# Altium footprint library adafruit.PCBLIB: 643 footprints (part 30 of 41)
Each footprint in its own frame and in the unit in brackets; x right, y up, seen from the top. Pads: shape width x height; smd on the part's side, far side on the other; paste and mask are expansions set on the pad; w line width, h text height; cw(c..) or ccw(c..) is an arc to the next point about the centre after c.
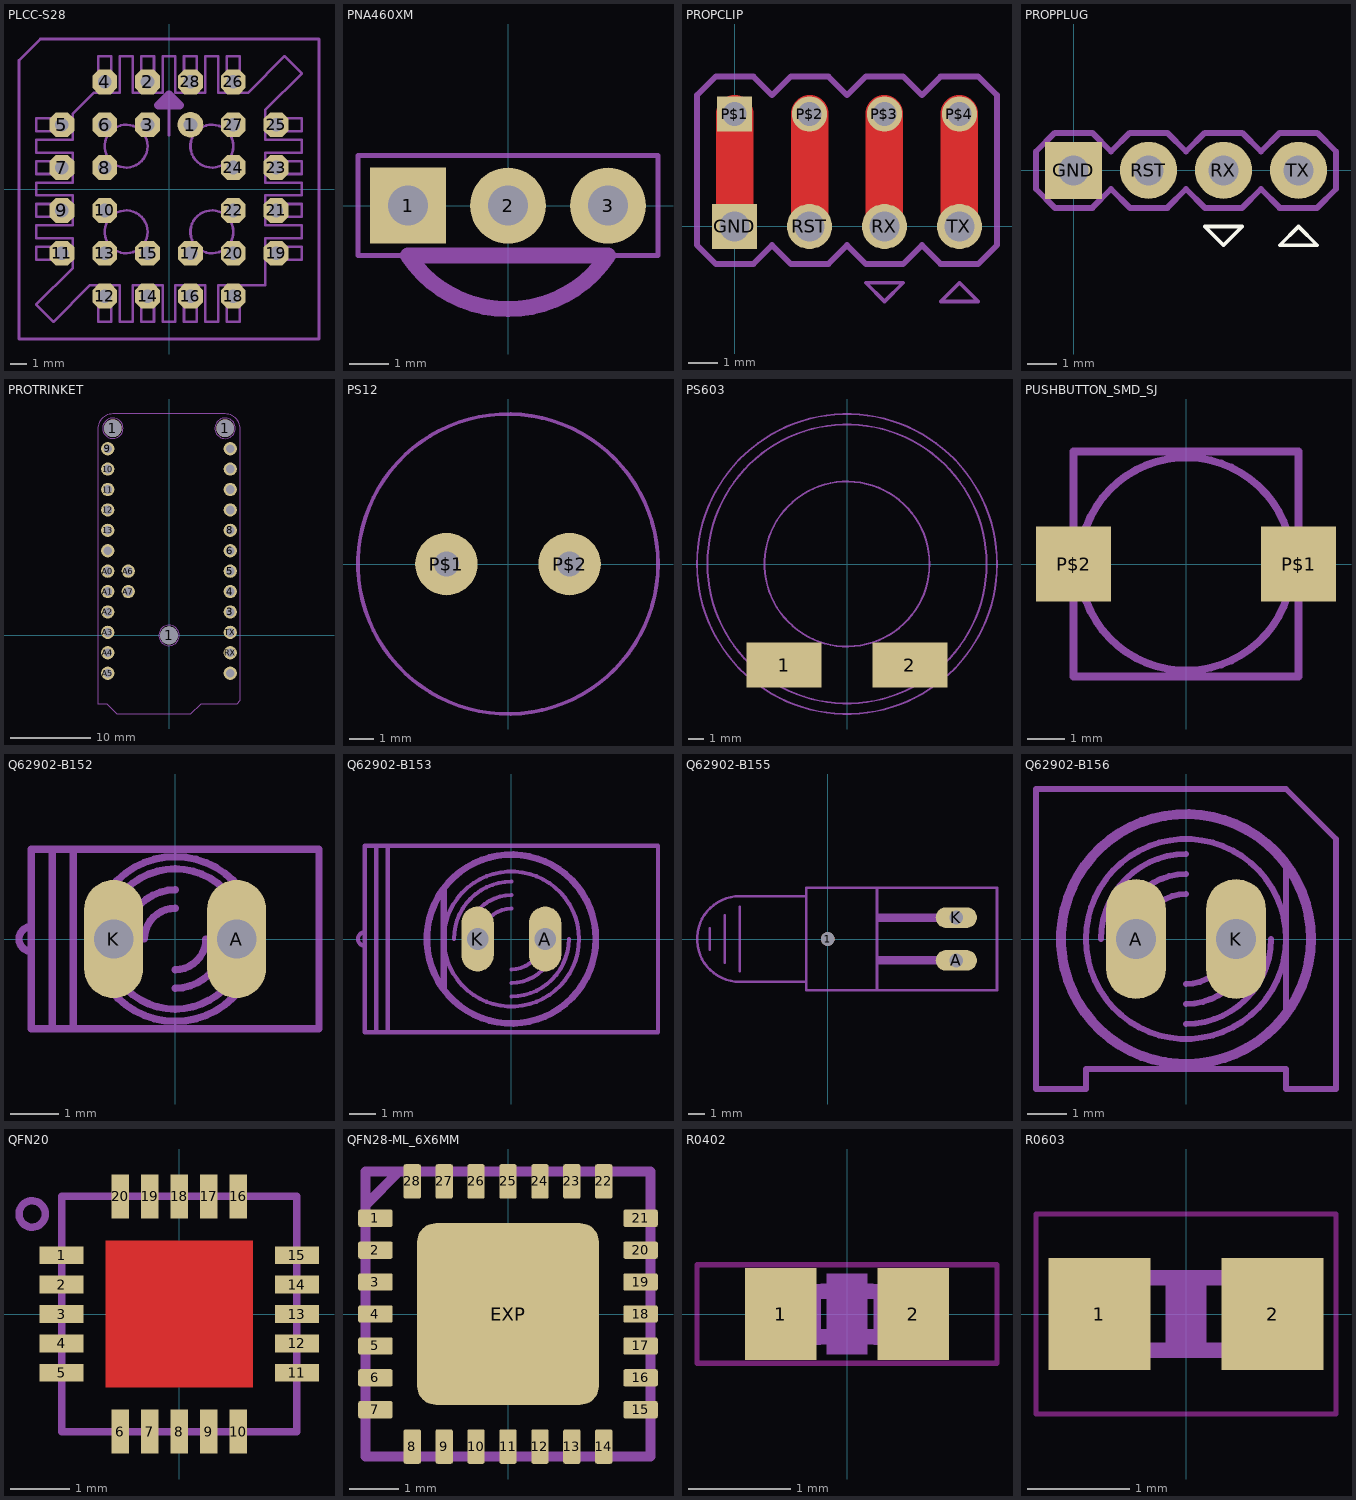
[diagram p29: the footprints below, top view; thin cyan lines are the x and y axes]

## PLCC-S28 [mil]
pads (28):
  round 60 hole 32: 1(50,150)
  oct 58.09x58.09 hole 32: 2(-50,250) 3(-50,150) 4(-150,250) 5(-250,150) 6(-150,150) 7(-250,50) 8(-150,50) 9(-250,-50) 10(-150,-50) 11(-250,-150) 12(-150,-250) 13(-150,-150) 14(-50,-250) 15(-50,-150) 16(50,-250) 17(50,-150) 18(150,-250) 19(250,-150) 20(150,-150) 21(250,-50) 22(150,-50) 23(250,50) 24(150,50) 25(250,150) 26(150,250) 27(150,150) 28(50,250)
Mechanical 2:
  lines w6: -225,-185 -310,-270 -270,-310 -185,-225 ; -225,-115 -310,-115 -310,-85 -225,-85 ; -225,-15 -310,-15 -310,15 -225,15 ; -225,85 -310,85 -310,115 -225,115 ; -225,175 -175,225 ; -115,-225 -115,-310 -85,-310 -85,-225 ; -115,225 -115,310 -85,310 -85,225 ; -15,-225 -15,-310 15,-310 15,-225 ; -15,225 -15,310 15,310 15,225 ; 0,125 0,220 ; 85,-225 85,-310 115,-310 115,-225 ; 85,225 85,310 115,310 115,225 ; 165,-225 225,-225 225,-165 ; 185,225 270,310 310,270 225,185 ; 225,-115 310,-115 310,-85 225,-85 ; 225,-15 310,-15 310,15 225,15 ; 225,85 310,85 310,115 225,115 ; -350,-350 -350,300 -300,350 350,350 350,-350 -350,-350
  lines w20: -25,195 25,195 0,220 -25,195
Mechanical 18:
  circle w6: c-100,100 r50
  circle w6: c100,100 r50
  circle w6: c-100,-100 r50
  circle w6: c100,-100 r50
  lines w6: -225,-185 -225,-165 -310,-165 -310,-135 -225,-135 -225,-115 ; -225,-85 -225,-65 -310,-65 -310,-35 -225,-35 -225,-15 ; -225,15 -225,35 -310,35 -310,65 -225,65 -225,85 ; -225,115 -225,135 -310,135 -310,165 -225,165 -225,175 ; -185,-225 -165,-225 -165,-310 -135,-310 -135,-225 -115,-225 ; -175,225 -165,225 -165,310 -135,310 -135,225 -115,225 ; -85,-225 -65,-225 -65,-310 -35,-310 -35,-225 -15,-225 ; -85,225 -65,225 -65,310 -35,310 -35,225 -15,225 ; 15,-225 35,-225 35,-310 65,-310 65,-225 85,-225 ; 15,225 35,225 35,310 65,310 65,225 85,225 ; 115,-225 135,-225 135,-310 165,-310 165,-225 ; 115,225 135,225 135,310 165,310 165,225 185,225 ; 225,-165 310,-165 310,-135 225,-135 225,-115 ; 225,-85 225,-65 310,-65 310,-35 225,-35 225,-15 ; 225,15 225,35 310,35 310,65 225,65 225,85 ; 225,115 225,135 310,135 310,165 225,165 225,185

## PNA460XM [mil]
pads (3):
  rect 76x76 hole 40: 1(-100,0)
  round 76 hole 40: 2(0,0) 3(100,0)
Mechanical 2:
  lines w5: -100,-50 -150,-50 -150,50 150,50 150,-50 100,-50
  lines w16: -100,-50 100,-50 cw(c0,16.66) -100,-50
Mechanical 18:
  rectangle: 90,-10 110,10
  rectangle: -10,-10 10,10
  rectangle: -110,-10 -90,10

## PROPCLIP [mil]
pads (8):
  rect 60x60 hole 40: GND(0,0)
  rect 47.25x47.25 hole 31.5: P$1(0,150)
  round 47.25 hole 31.5: P$2(100,150) P$3(200,150) P$4(300,150)
  round 60 hole 40: RST(100,0) RX(200,0) TX(300,0)
Top Layer:
  lines w50: 0,0 0,150 ; 100,0 100,150 ; 200,0 200,150 ; 300,0 300,150
Mechanical 2:
  lines w5: 175,-75 200,-100 225,-75 175,-75 ; 275,-100 325,-100 300,-75 275,-100
  lines w8: -50,-25 -50,175 -25,200 25,200 50,175 75,200 125,200 150,175 175,200 225,200 250,175 275,200 325,200 350,175 350,-25 325,-50 275,-50 250,-25 225,-50 175,-50 150,-25 125,-50 75,-50 50,-25 25,-50 -25,-50 -50,-25
Mechanical 18:
  rectangle: 290,-10 310,10
  rectangle: 190,-10 210,10
  rectangle: 90,-10 110,10
  rectangle: -10,-10 10,10

## PROPPLUG [mil]
pads (4):
  rect 76x76 hole 40: GND(0,0)
  round 76 hole 40: RST(100,0) RX(200,0) TX(300,0)
Top Overlay:
  lines w5: 175,-75 200,-100 225,-75 175,-75 ; 275,-100 325,-100 300,-75 275,-100
Mechanical 2:
  lines w8: -50,-25 -50,25 -25,50 25,50 50,25 75,50 125,50 150,25 175,50 225,50 250,25 275,50 325,50 350,25 350,-25 325,-50 275,-50 250,-25 225,-50 175,-50 150,-25 125,-50 75,-50 50,-25 25,-50 -25,-50 -50,-25
Mechanical 18:
  rectangle: 290,-10 310,10
  rectangle: 190,-10 210,10
  rectangle: 90,-10 110,10
  rectangle: -10,-10 10,10

## PROTRINKET [mil]
pads (29):
  round 86.61 hole 86.61: 1(-275,1015) 1(0,0) 1(275,1015)
  round 64.97 hole 43.31: 3(300,115) 4(300,215) 5(300,315) 6(300,415) 8(300,515) 9(-300,915) 10(-300,815) 11(-300,715) 12(-300,615) 13(-300,515) A0(-300,315) A1(-300,215) A2(-300,115) A3(-300,15) A4(-300,-85) A5(-300,-185) A6(-200,315) A7(-200,215) AREF(-300,415) BAT+(300,915) GND(300,815) RST(300,-185) RX(300,-85) TX(300,15) USB(300,715) VCC(300,615)
Mechanical 2:
  lines w0: -350,-335 -350,1010 cw(c-275,1010) -275,1085 275,1085 cw(c275,1010) 350,1010 350,-317.5 335,-335 157.5,-335 107.5,-385 -255,-385 -305,-335 -350,-335
Mechanical 18:
  circle w5: c275,1015 r50.25
  circle w5: c-275,1015 r50
  circle w5: c0,0 r50

## PS12 [mm]
pads (2):
  round 2.54 hole 1: P$1(-2.5,0) P$2(2.5,0)
Mechanical 2:
  circle w0.152: c0,0 r6.096

## PS603 [mm]
pads (2):
  rect 5x3 smd: 1(-4.184,-6.738) 2(4.184,-6.738)
Mechanical 2:
  circle w0.127: c0,0 r10
  circle w0.127: c0,0 r9.302
  circle w0.127: c0,0 r5.5

## PUSHBUTTON_SMD_SJ [mm]
pads (2):
  rect 2x2 smd: P$1(3,0) P$2(-3,0)
Mechanical 2:
  lines w0.203: -3,-1.7 -3,-3 3,-3 3,-1.7 ; -3,1.7 -3,3 3,3 3,1.7
Mechanical 18:
  circle w0.203: c0,0 r2.84
  lines w0.127: -3,-3 3,-3 ; -3,3 3,3
  lines w0.203: -3,-3 -3,3 ; 3,-3 3,3

## Q62902-B152 [mil]
pads (2):
  oval 48x96 hole 32: A(50,0) K(-50,0)
Mechanical 2:
  lines w6: -117,-10 cw(c-117,0) -117,10 ; -57.55,34.31 cw(c0,0) 0,67 cw(c0,0) 57.77,33.93 ; -57.37,-34.62 ccw(c-0.01,0) 0,-67 ccw(c0.01,0) 57.37,-34.62 ; -45.22,34.7 cw(c0,0) 0,57 cw(c0,0) 45.18,34.75 ; -44.69,-35.38 ccw(c0,0) 0,-57 ccw(c0,0) 44.51,-35.61 ; -25,0 cw(c0,0) 0,25 ; -100,-73 -83,-73 ; -100,-73 -100,73 ; -100,-73 -117,-73 -117,73 -100,73 ; -100,73 -83,73 ; -83,-73 117,-73 117,-19 117,19 117,73 -83,73 ; -83,-73 -83,-19 -83,19 -83,73
Mechanical 18:
  lines w6: -57.09,-35.06 cw(c0,0.01) -67,0 cw(c-0.01,0) -56.88,35.41 ; -45.1,34.85 ccw(c-0.01,0) -57,0 ccw(c0,0) -44.51,-35.61 ; -40,0 cw(c0,0) 0,40 ; 0,-40 ccw(c0,0) 40,0 ; 0,-25 ccw(c0,0) 25,0 ; 44.41,-35.72 ccw(c0,0.01) 57,0 ccw(c0,0) 44.89,35.13 ; 56.93,-35.33 ccw(c0.01,-0.01) 67,0 ccw(c-0.01,0) 57.17,34.94

## Q62902-B153 [mil]
pads (2):
  oval 48x96 hole 32: A(50,0) K(-50,0)
Mechanical 2:
  circle w6: c0,0 r100
  circle w10: c0,0 r125
  lines w6: -217,-10 cw(c-217,0) -217,10 ; -200,-138 -183,-138 ; -200,-138 -200,138 ; -200,-138 -217,-138 -217,138 -200,138 ; -200,138 -183,138 ; -183,-138 217,-138 217,138 -183,138 ; -183,-138 -183,138
  lines w10: -100,-75 -100,75
Mechanical 18:
  lines w6: -85,0 cw(c0,0) 0,85 ; -65,0 cw(c0,0) 0,65 ; -45,0 cw(c0,0) 0,45 ; 0,-85 ccw(c0,0) 85,0 ; 0,-65 ccw(c0,0) 65,0 ; 0,-45 ccw(c0,0) 45,0

## Q62902-B155 [mil]
pads (3):
  round 32 hole 32: 1(0,0)
  oval 96x48 hole 32: A(300,-50) K(300,50)
Mechanical 2:
  rectangle: 115,40 265,60
  rectangle: 115,-60 265,-40
  lines w6: -275,-25 -275,25 ; -240,-55 -240,55 ; -205,-75 -205,75 ; -50,-100 -50,-120 115,-120 ; -50,-100 -205,-100 cw(c-205,0) -205,100 -50,100 ; -50,-100 -50,100 ; -50,100 -50,120 115,120 ; 115,-120 115,120 ; 115,-120 395,-120 395,120 115,120

## Q62902-B156 [mil]
pads (2):
  oval 60x120 hole 40: A(-50,0) K(50,0)
Mechanical 2:
  circle w6: c0,0 r100
  circle w10: c0,0 r125
  lines w6: 100,-75 100,75 ; -150,-150 -150,150 100,150 150,100 150,-150 100,-150 100,-130 -100,-130 -100,-150 -150,-150
Mechanical 18:
  lines w6: -85,0 cw(c0,0) 0,85 ; -65,0 cw(c0,0) 0,65 ; -45,0 cw(c0,0) 0,45 ; 0,-85 ccw(c0,0) 85,0 ; 0,-65 ccw(c0,0) 65,0 ; 0,-45 ccw(c0,0) 45,0

## QFN20 [mm]
pads (20):
  rect 0.75x0.3 smd: 1(-2,1) 2(-2,0.5) 3(-2,0) 4(-2,-0.5) 5(-2,-1) 11(2,-1) 12(2,-0.5) 13(2,0) 14(2,0.5) 15(2,1)
  rect 0.3x0.75 smd: 6(-1,-2) 7(-0.5,-2) 8(0,-2) 9(0.5,-2) 10(1,-2) 16(1,2) 17(0.5,2) 18(0,2) 19(-0.5,2) 20(-1,2)
Top Layer:
  rectangle: -1.25,-1.25 1.25,1.25
Top Paste:
  rectangle: -1.2,0.4 -0.4,1.2
  rectangle: 0.4,0.4 1.2,1.2
  rectangle: 0.4,-1.2 1.2,-0.4
  rectangle: -1.2,-1.2 -0.4,-0.4
Top Solder:
  rectangle: -1.3,-1.3 1.3,1.3
Mechanical 2:
  circle w0.127: c-2.5,1.7 r0.224
  lines w0.127: -2,-2 2,-2 2,2 -2,2 -2,-2

## QFN28-ML_6X6MM [mm]
pads (29):
  rrect20% 0.7x0.35 smd paste-0.35 mask-0.35: 1(-2.7,1.95) 2(-2.7,1.3) 3(-2.7,0.65) 4(-2.7,0) 5(-2.7,-0.65) 6(-2.7,-1.3) 7(-2.7,-1.95) 15(2.7,-1.95) 16(2.7,-1.3) 17(2.7,-0.65) 18(2.7,0) 19(2.7,0.65) 20(2.7,1.3) 21(2.7,1.95)
  rrect20% 0.35x0.7 smd paste-0.35 mask-0.35: 8(-1.95,-2.7) 9(-1.3,-2.7) 10(-0.65,-2.7) 11(0,-2.7) 12(0.65,-2.7) 13(1.3,-2.7) 14(1.95,-2.7) 22(1.95,2.7) 23(1.3,2.7) 24(0.65,2.7) 25(0,2.7) 26(-0.65,2.7) 27(-1.3,2.7) 28(-1.95,2.7)
  rrect20% 3.7x3.7 smd paste-1.85 mask-1.85: EXP(0,0)
Top Paste:
  rectangle: -3.042,1.787 -2.359,2.113
  rectangle: -3.042,1.137 -2.359,1.463
  rectangle: -3.042,0.487 -2.359,0.813
  rectangle: -3.042,-0.163 -2.359,0.163
  rectangle: -3.042,-0.813 -2.359,-0.487
  rectangle: -3.042,-1.463 -2.359,-1.137
  rectangle: -3.042,-2.113 -2.359,-1.787
  region: -1.788,-3.042 -1.788,-2.36 -2.112,-2.36 -2.112,-3.042
  region: -1.138,-3.042 -1.138,-2.36 -1.462,-2.36 -1.462,-3.042
  region: -0.488,-3.042 -0.488,-2.36 -0.812,-2.36 -0.812,-3.042
  region: 0.162,-3.042 0.162,-2.36 -0.162,-2.36 -0.162,-3.042
  region: 0.812,-3.042 0.812,-2.36 0.488,-2.36 0.488,-3.042
  region: 1.462,-3.042 1.462,-2.36 1.138,-2.36 1.138,-3.042
  region: 2.112,-3.042 2.112,-2.36 1.788,-2.36 1.788,-3.042
  region: 3.042,-1.787 2.359,-1.787 2.359,-2.113 3.042,-2.113
  region: 3.042,-1.137 2.359,-1.137 2.359,-1.463 3.042,-1.463
  region: 3.042,-0.487 2.359,-0.487 2.359,-0.813 3.042,-0.813
  region: 3.042,0.163 2.359,0.163 2.359,-0.163 3.042,-0.163
  region: 3.042,0.813 2.359,0.813 2.359,0.487 3.042,0.487
  region: 3.042,1.463 2.359,1.463 2.359,1.137 3.042,1.137
  region: 3.042,2.113 2.359,2.113 2.359,1.787 3.042,1.787
  region: 1.788,3.042 1.788,2.36 2.112,2.36 2.112,3.042
  region: 1.138,3.042 1.138,2.36 1.462,2.36 1.462,3.042
  region: 0.488,3.042 0.488,2.36 0.812,2.36 0.812,3.042
  region: -0.162,3.042 -0.162,2.36 0.162,2.36 0.162,3.042
  region: -0.812,3.042 -0.812,2.36 -0.488,2.36 -0.488,3.042
  region: -1.462,3.042 -1.462,2.36 -1.138,2.36 -1.138,3.042
  region: -2.112,3.042 -2.112,2.36 -1.788,2.36 -1.788,3.042
  rectangle: -1.736,-1.736 1.736,1.736
Top Solder:
  rectangle: -3.055,1.768 -2.346,2.132
  rectangle: -3.055,1.118 -2.346,1.482
  rectangle: -3.055,0.468 -2.346,0.832
  rectangle: -3.055,-0.182 -2.346,0.182
  rectangle: -3.055,-0.832 -2.346,-0.468
  rectangle: -3.055,-1.482 -2.346,-1.118
  rectangle: -3.055,-2.132 -2.346,-1.768
  region: -1.768,-3.055 -1.768,-2.346 -2.132,-2.346 -2.132,-3.055
  region: -1.118,-3.055 -1.118,-2.346 -1.482,-2.346 -1.482,-3.055
  region: -0.468,-3.055 -0.468,-2.346 -0.832,-2.346 -0.832,-3.055
  region: 0.182,-3.055 0.182,-2.347 -0.182,-2.347 -0.182,-3.055
  region: 0.832,-3.055 0.832,-2.346 0.468,-2.346 0.468,-3.055
  region: 1.482,-3.055 1.482,-2.346 1.118,-2.346 1.118,-3.055
  region: 2.132,-3.055 2.132,-2.346 1.768,-2.346 1.768,-3.055
  region: 3.055,-1.768 2.346,-1.768 2.346,-2.132 3.055,-2.132
  region: 3.055,-1.118 2.346,-1.118 2.346,-1.482 3.055,-1.482
  region: 3.055,-0.468 2.346,-0.468 2.346,-0.832 3.055,-0.832
  region: 3.055,0.182 2.346,0.182 2.346,-0.182 3.055,-0.182
  region: 3.055,0.832 2.346,0.832 2.346,0.468 3.055,0.468
  region: 3.055,1.482 2.346,1.482 2.346,1.118 3.055,1.118
  region: 3.055,2.132 2.346,2.132 2.346,1.768 3.055,1.768
  region: 1.768,3.055 1.768,2.346 2.132,2.346 2.132,3.055
  region: 1.118,3.055 1.118,2.346 1.482,2.346 1.482,3.055
  region: 0.468,3.055 0.468,2.346 0.832,2.346 0.832,3.055
  region: -0.182,3.055 -0.182,2.347 0.182,2.347 0.182,3.055
  region: -0.832,3.055 -0.832,2.346 -0.468,2.346 -0.468,3.055
  region: -1.482,3.055 -1.482,2.346 -1.118,2.346 -1.118,3.055
  region: -2.132,3.055 -2.132,2.346 -1.768,2.346 -1.768,3.055
  rectangle: -1.859,-1.859 1.859,1.859
Mechanical 2:
  lines w0.203: -2.898,2.221 -2.22,2.9 -2.22,2.898 -2.898,2.898 -2.898,2.221
Mechanical 18:
  lines w0.203: -2.898,2.221 -2.898,-2.898 2.898,-2.898 2.898,2.898 -2.22,2.898

## R0402 [mm]
pads (2):
  rect 0.7x0.9 smd: 1(-0.65,0) 2(0.65,0)
Keep-Out Layer:
  lines w0.051: -1.473,-0.483 1.473,-0.483 1.473,0.483 -1.473,0.483 -1.473,-0.483
Mechanical 8:
  rectangle: -0.2,-0.4 0.2,0.4
Mechanical 18:
  rectangle: -0.554,-0.305 -0.254,0.295
  rectangle: 0.259,-0.305 0.559,0.295
  lines w0.152: -0.245,-0.224 0.245,-0.224 ; -0.245,0.224 0.245,0.224

## R0603 [mm]
pads (2):
  rect 1x1.1 smd: 1(-0.85,0) 2(0.85,0)
Keep-Out Layer:
  lines w0.051: -1.473,-0.983 1.473,-0.983 1.473,0.983 -1.473,0.983 -1.473,-0.983
Mechanical 8:
  rectangle: -0.2,-0.4 0.2,0.4
Mechanical 18:
  rectangle: 0.432,-0.432 0.838,0.432
  rectangle: -0.838,-0.432 -0.432,0.432
  lines w0.152: -0.432,-0.356 0.432,-0.356 ; -0.432,0.356 0.432,0.356